# EAGLE library part SAMACSYS_PARTS_FTSH-103-01-F-D (library CDC_Parts)
Conn Unshrouded Header HDR 6 POS 1.27mm Solder ST Thru-Hole Source: Datasheet <https://componentsearchengine.com/Datasheets/1/FTSH-103-01-F-D.pdf>
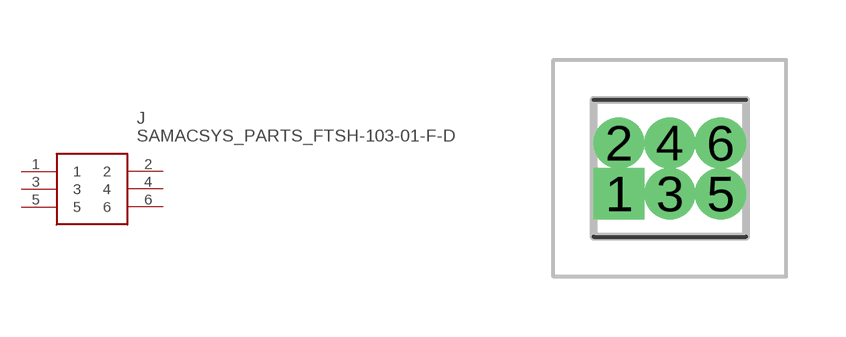
[diagram p0: symbol with the pads of SAMACSYS_PARTS_FTSH10301FD; footprint SAMACSYS_PARTS_FTSH10301FD]

Designator prefix J

## SAMACSYS_PARTS_FTSH-103-01-F-D (DESCRIPTION: Conn Unshrouded Header HDR 6 POS 1.27mm Solder ST Thru-Hole; HEIGHT: 5.56mm; MANUFACTURER_NAME: SAMTEC; MANUFACTURER_PART_NUMBER: FTSH-103-01-F-D; MOUSER_PART_NUMBER: 200-FTSH10301FD; MOUSER_PRICE-STOCK: https://www.mouser.com/Search/Refine.aspx?Keyword=200-FTSH10301FD)  [SAMACSYS_PARTS_FTSH10301FD]
1  1
2  2
3  3
4  4
5  5
6  6

## Footprint SAMACSYS_PARTS_FTSH10301FD (pad centres in mm)
FTSH-103-01-F-D-2
drill 0.77 pad 1.1 square: 1 0,0
drill 0.77 pad 1.1: 2 0,1.27; 3 1.27,0; 4 1.27,1.27; 5 2.54,0; 6 2.54,1.27